# Altium footprint library CT10-1040-G1.PcbLib: 1 footprints
Each footprint in its own frame and in the unit in brackets; x right, y up, seen from the top. Pads: shape width x height; smd on the part's side, far side on the other; paste and mask are expansions set on the pad; w line width, h text height; cw(c..) or ccw(c..) is an arc to the next point about the centre after c.
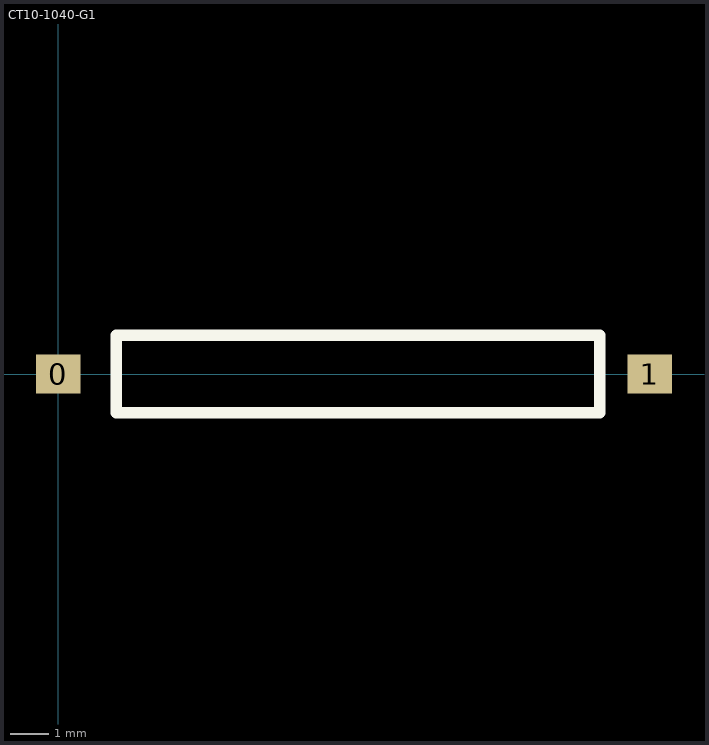
[diagram p0: the footprint, top view; thin cyan lines are the x and y axes]

## CT10-1040-G1 [mm] "SWITCH, REED, SPST, 140VAC, 500MA, SMD"
height 2.5
pads (2):
  rect 1.15x1 smd: 0(0,0) 1(15.3,0)
Top Overlay:
  lines w0.3: 1.5,-1 1.5,0 1.5,1 14,1 14,-1 1.5,-1